# Altium schematic symbol library ic.SchLib: 3 symbols
Pins are listed as number, name and electrical type; pins without a type are passive.

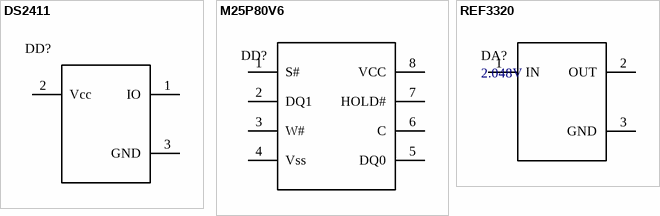
[diagram p0: symbols DS2411 to REF3320]

## DS2411
designator DD?
Unic 48bit serial code. Family code 0x01; PartNumber: DS2411R+T&R; Supplier: Chipdip; Unit Price: 130; WebLink: https://www.chipdip.ru/product/ds2411r-t-r-2
footprint SOT-23-3
pins: 1 IO, 2 Vcc, 3 GND

## M25P80V6
designator DD?
Serial memory 2.7-3.6V, 8 Mbit (1 Mbyte); PartNumber: M25P80-VMW; Supplier: Chipdip; Unit Price: 130; WebLink: https://www.chipdip.ru/product1/8344124196
footprint So-8W (208mils)
pins: 1 S#, 2 DQ1, 3 W#, 4 Vss, 5 DQ0, 6 C, 7 HOLD#, 8 VCC

## REF3320
designator DA?, comment 2.048V
Reference 2.048V; PartNumber: REF3318AIDCKR, REF3318AIDCKT; Supplier: Terrraelectronica; Unit Price: 67; WebLink: https://www.terraelectronica.ru/catalog/istochniki-opornogo-napryazheniya-i-toka-256?text=ref3320&search=ref3320
footprint SC70-3
pins: 1 IN, 2 OUT, 3 GND